# Altium schematic symbol library nanoArduino.SchLib: 1 symbol
Pins are listed as number, name and electrical type; pins without a type are passive.

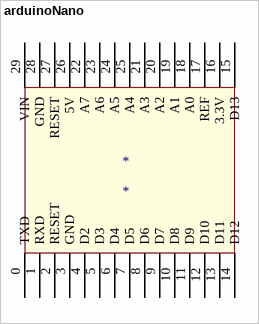
[diagram p0: symbol arduinoNano]

## arduinoNano
designator *
footprint Arduino nano (arduino nano)
pins: 0 TXD, 1 RXD, 2 RESET, 3 GND, 4 D2, 5 D3, 6 D4, 7 D5, 8 D6, 9 D7, 10 D8, 11 D9, 12 D10, 13 D11, 14 D12, 15 D13, 16 3.3V, 17 REF, 18 A0, 19 A1, 20 A2, 21 A3, 22 A7, 23 A6, 24 A5, 25 A4, 26 5V, 27 RESET, 28 GND, 29 VIN